# Altium footprint library EXP_HW_V3.PcbLib: 103 footprints (part 5 of 7)
Each footprint in its own frame and in the unit in brackets; x right, y up, seen from the top. Pads: shape width x height; smd on the part's side, far side on the other; paste and mask are expansions set on the pad; w line width, h text height; cw(c..) or ccw(c..) is an arc to the next point about the centre after c.
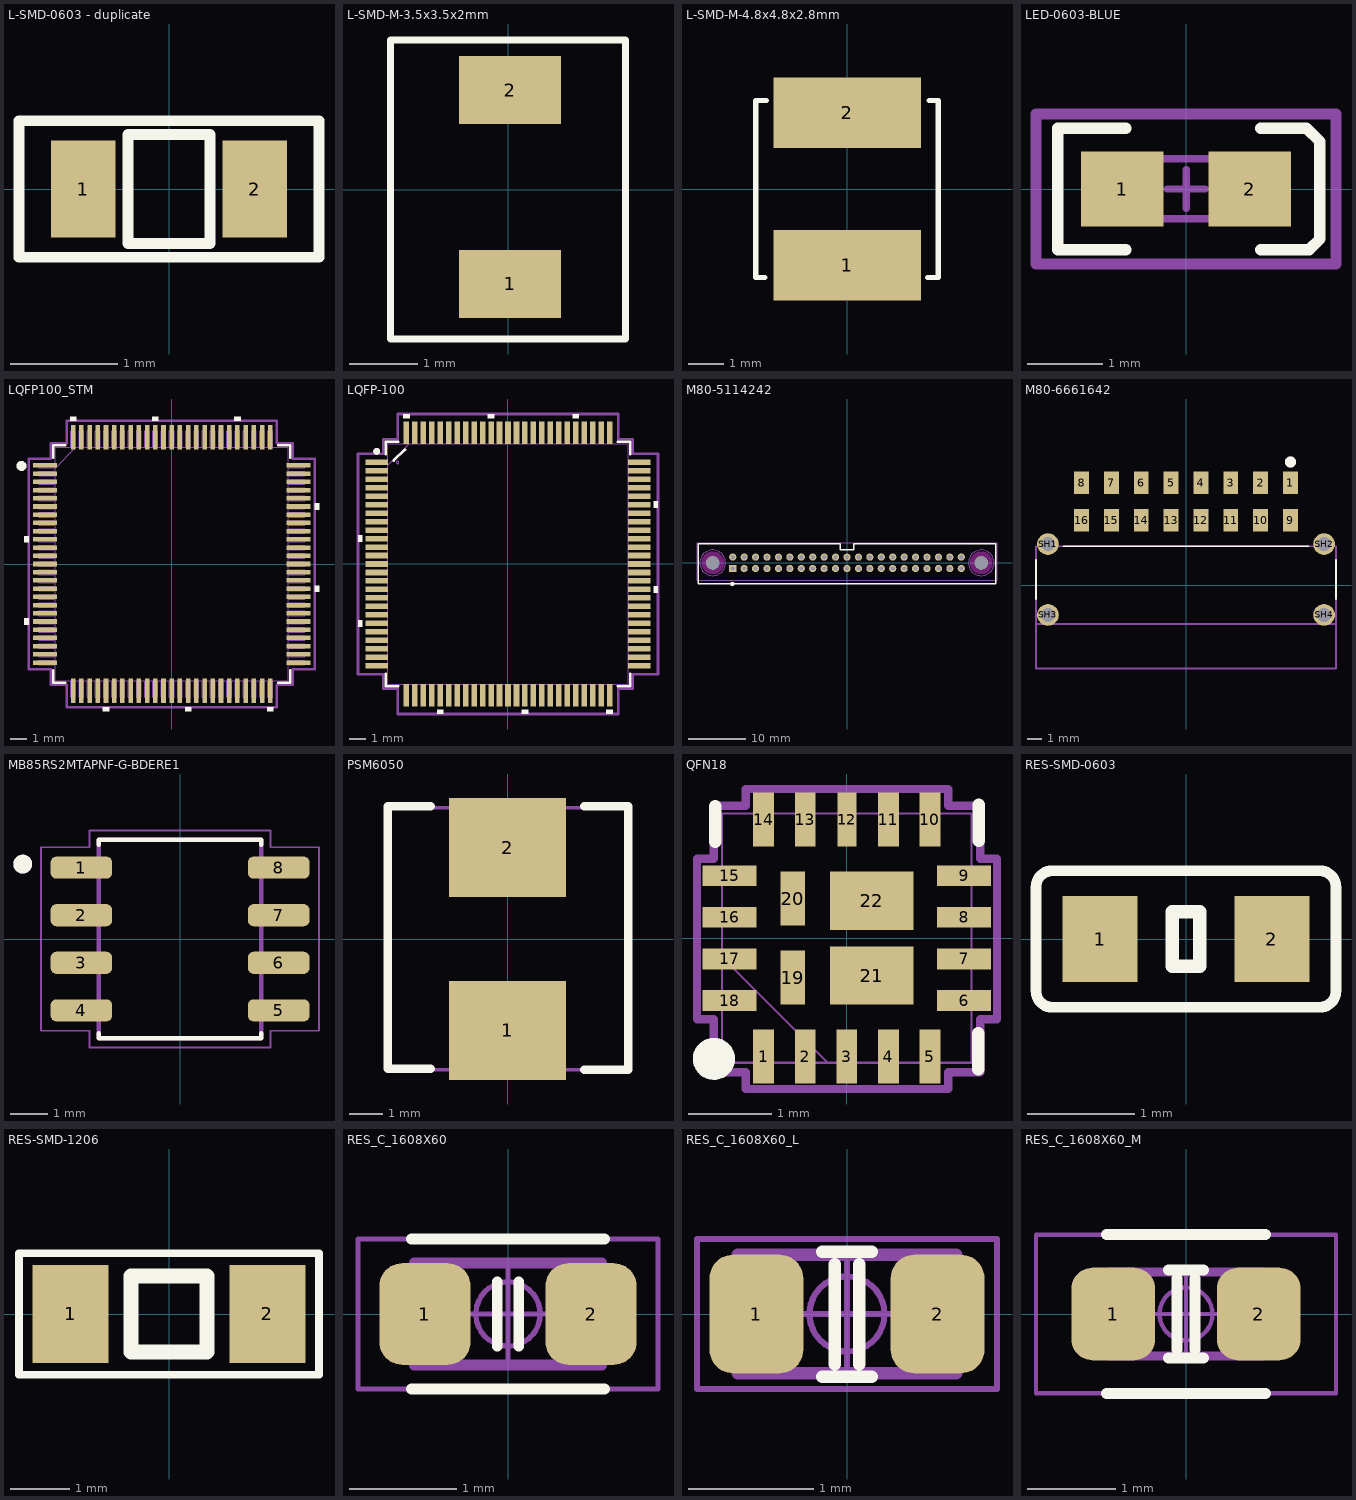
[diagram p4: the footprints below, top view; thin cyan lines are the x and y axes]

## L-SMD-0603 - duplicate [mm]
pads (2):
  rect 0.6x0.9 smd: 1(-0.8,0) 2(0.8,0)
Top Overlay:
  lines w0.1: -1.397,-0.635 0.889,-0.635 1.397,-0.635 1.397,0.635 -1.397,0.635 -1.397,-0.635 ; -0.381,-0.508 -0.381,0.508 0.381,0.508 0.381,-0.508 -0.381,-0.508
3D body "L_0603.stp": height 0.81, standoff 0.01, extent -0.8,-0.4 0.8,0.4

## L-SMD-M-3.5x3.5x2mm [mm]
pads (2):
  rect 1.5x1 smd: 1(0.032,-1.385) 2(0.032,1.461)
Top Overlay:
  lines w0.1: -1.727,-2.195 -1.727,2.195 1.727,2.195 1.727,-2.195 -1.727,-2.195
3D body "SRP3020TA.stp": height 1.84, standoff 0.03, extent -1.58,-1.731 1.62,1.765

## L-SMD-M-4.8x4.8x2.8mm [mm]
pads (2):
  rect 4.2x2 smd: 1(0,-2.17) 2(0,2.17)
Top Overlay:
  lines w0.15: -2.357,-2.517 -2.609,-2.517 -2.609,2.519 -2.304,2.519 ; 2.28,-2.518 2.585,-2.518 2.585,2.518 2.333,2.518
3D body "SRR4828A.stp": height 2.76, standoff 0, extent -2.41,-2.4 2.41,2.4

## LED-0603-BLUE [mm] "LED SMD; Body 1.6 x 0.8 mm (LxW typ)"
height 0.75
pads (2):
  rect 1.1x1 smd mask+0.1: 1(-0.851,0) 2(0.849,0)
Top Overlay:
  lines w0.15: -0.801,-0.81 -1.712,-0.81 -1.712,0.81 -0.801,0.81 ; 0.995,-0.81 1.642,-0.81 1.784,-0.668 1.784,0.632 1.606,0.81 0.995,0.81
Top 3D Body:
  lines w0.1: -0.254,0 0.254,0 ; 0,-0.254 0,0.254 ; -0.8,-0.4 0.8,-0.4 0.8,0.4 -0.8,0.4 -0.8,-0.4
Top Courtyard:
  lines w0.15: -2.001,-1 1.999,-1 1.999,1 -2.001,1 -2.001,-1
3D body: height 0.75, standoff 0.18, extent -0.6,-0.4 0.6,0.4
3D body: height 0.18, standoff 0, extent -0.8,-0.4 0.8,0.4

## LQFP100_STM [mil]
pads (100):
  rect 58x11 smd paste+0 mask+4.72: 1(-304,236.22) 2(-304,216.54) 3(-304,196.85) 4(-304,177.17) 5(-304,157.48) 6(-304,137.8) 7(-304,118.11) 8(-304,98.43) 9(-304,78.74) 10(-304,59.06) 11(-304,39.37) 12(-304,19.69) 13(-304,0) 14(-304,-19.68) 15(-304,-39.37) 16(-304,-59.06) 17(-304,-78.74) 18(-304,-98.43) 19(-304,-118.11) 20(-304,-137.8) 21(-304,-157.48) 22(-304,-177.17) 23(-304,-196.85) 24(-304,-216.54) 25(-304,-236.22) 51(304,-236.22) 52(304,-216.54) 53(304,-196.85) 54(304,-177.17) 55(304,-157.48) 56(304,-137.8) 57(304,-118.11) 58(304,-98.43) 59(304,-78.74) 60(304,-59.06) 61(304,-39.37) 62(304,-19.68) 63(304,0) 64(304,19.68) 65(304,39.37) 66(304,59.06) 67(304,78.74) 68(304,98.43) 69(304,118.11) 70(304,137.8) 71(304,157.48) 72(304,177.17) 73(304,196.85) 74(304,216.54) 75(304,236.22)
  rect 11x58 smd paste+0 mask+4.72: 26(-236.22,-304) 27(-216.54,-304) 28(-196.85,-304) 29(-177.17,-304) 30(-157.48,-304) 31(-137.8,-304) 32(-118.11,-304) 33(-98.43,-304) 34(-78.74,-304) 35(-59.06,-304) 36(-39.37,-304) 37(-19.68,-304) 38(0,-304) 39(19.68,-304) 40(39.37,-304) 41(59.06,-304) 42(78.74,-304) 43(98.43,-304) 44(118.11,-304) 45(137.8,-304) 46(157.48,-304) 47(177.17,-304) 48(196.85,-304) 49(216.54,-304) 50(236.22,-304) 76(236.22,304) 77(216.54,304) 78(196.85,304) 79(177.17,304) 80(157.48,304) 81(137.8,304) 82(118.11,304) 83(98.43,304) 84(78.74,304) 85(59.06,304) 86(39.37,304) 87(19.68,304) 88(0,304) 89(-19.68,304) 90(-39.37,304) 91(-59.06,304) 92(-78.74,304) 93(-98.43,304) 94(-118.11,304) 95(-137.8,304) 96(-157.48,304) 97(-177.17,304) 98(-196.85,304) 99(-216.54,304) 100(-236.22,304)
Top Overlay:
  circle w12: c-360,235 r6
  region: -343,66.56 -353,66.56 -353,51.56 -343,51.56
  region: -343,-130.3 -353,-130.3 -353,-145.3 -343,-145.3
  region: -149.98,-343 -164.98,-343 -164.98,-353 -149.98,-353
  region: 46.87,-343 31.87,-343 31.87,-353 46.87,-353
  region: 243.72,-343 228.72,-343 228.72,-353 243.72,-353
  region: 343,-51.56 353,-51.56 353,-66.56 343,-66.56
  region: 343,145.3 353,145.3 353,130.3 343,130.3
  region: 164.98,343 149.98,343 149.98,353 164.98,353
  region: -31.87,343 -46.87,343 -46.87,353 -31.87,353
  region: -228.72,343 -243.72,343 -243.72,353 -228.72,353
  lines w6: -284.5,-254.82 -284.5,-284.5 -254.82,-284.5 ; -284.5,254.82 -284.5,284.5 -254.82,284.5 ; 254.82,-284.5 284.5,-284.5 284.5,-254.82 ; 254.82,284.5 284.5,284.5 284.5,254.82
Mechanical 13:
  drawing of 405 lines, arcs and shapes, not listed
  text "*" at -277,221.06 h50
Mechanical 15:
  lines w6: -343,-251.72 -289.5,-251.72 -289.5,-289.5 -251.72,-289.5 -251.72,-343 251.72,-343 251.72,-289.5 289.5,-289.5 289.5,-251.72 343,-251.72 343,251.72 289.5,251.72 289.5,289.5 251.72,289.5 251.72,343 -251.72,343 -251.72,289.5 -289.5,289.5 -289.5,251.72 -343,251.72 -343,-251.72
3D body "LQFP100_STM.step": height 63.11, standoff 0, extent -319.02,-319.02 319.02,319.02

## LQFP-100 [mm]
pads (100):
  rect 1.35x0.33 smd paste+0: 1(-7.75,6) 2(-7.75,5.5) 3(-7.75,5) 4(-7.75,4.5) 5(-7.75,4) 6(-7.75,3.5) 7(-7.75,3) 8(-7.75,2.5) 9(-7.75,2) 10(-7.75,1.5) 11(-7.75,1) 12(-7.75,0.5) 13(-7.75,0) 14(-7.75,-0.5) 15(-7.75,-1) 16(-7.75,-1.5) 17(-7.75,-2) 18(-7.75,-2.5) 19(-7.75,-3) 20(-7.75,-3.5) 21(-7.75,-4) 22(-7.75,-4.5) 23(-7.75,-5) 24(-7.75,-5.5) 25(-7.75,-6) 51(7.75,-6) 52(7.75,-5.5) 53(7.75,-5) 54(7.75,-4.5) 55(7.75,-4) 56(7.75,-3.5) 57(7.75,-3) 58(7.75,-2.5) 59(7.75,-2) 60(7.75,-1.5) 61(7.75,-1) 62(7.75,-0.5) 63(7.75,0) 64(7.75,0.5) 65(7.75,1) 66(7.75,1.5) 67(7.75,2) 68(7.75,2.5) 69(7.75,3) 70(7.75,3.5) 71(7.75,4) 72(7.75,4.5) 73(7.75,5) 74(7.75,5.5) 75(7.75,6)
  rect 0.33x1.35 smd paste+0: 26(-6,-7.75) 27(-5.5,-7.75) 28(-5,-7.75) 29(-4.5,-7.75) 30(-4,-7.75) 31(-3.5,-7.75) 32(-3,-7.75) 33(-2.5,-7.75) 34(-2,-7.75) 35(-1.5,-7.75) 36(-1,-7.75) 37(-0.5,-7.75) 38(0,-7.75) 39(0.5,-7.75) 40(1,-7.75) 41(1.5,-7.75) 42(2,-7.75) 43(2.5,-7.75) 44(3,-7.75) 45(3.5,-7.75) 46(4,-7.75) 47(4.5,-7.75) 48(5,-7.75) 49(5.5,-7.75) 50(6,-7.75) 76(6,7.75) 77(5.5,7.75) 78(5,7.75) 79(4.5,7.75) 80(4,7.75) 81(3.5,7.75) 82(3,7.75) 83(2.5,7.75) 84(2,7.75) 85(1.5,7.75) 86(1,7.75) 87(0.5,7.75) 88(0,7.75) 89(-0.5,7.75) 90(-1,7.75) 91(-1.5,7.75) 92(-2,7.75) 93(-2.5,7.75) 94(-3,7.75) 95(-3.5,7.75) 96(-4,7.75) 97(-4.5,7.75) 98(-5,7.75) 99(-5.5,7.75) 100(-6,7.75)
Top Overlay:
  circle w0.252: c-7.753,6.65 r0.076
  region: -5.809,8.601 -6.19,8.601 -6.19,8.855 -5.809,8.855
  region: -0.809,8.601 -1.19,8.601 -1.19,8.855 -0.809,8.855
  region: 4.191,8.601 3.81,8.601 3.81,8.855 4.191,8.855
  region: 8.601,3.69 8.855,3.69 8.855,3.309 8.601,3.309
  region: 8.601,-1.31 8.855,-1.31 8.855,-1.691 8.601,-1.691
  region: 6.191,-8.601 5.81,-8.601 5.81,-8.855 6.191,-8.855
  region: 1.191,-8.601 0.81,-8.601 0.81,-8.855 1.191,-8.855
  region: -3.809,-8.601 -4.19,-8.601 -4.19,-8.855 -3.809,-8.855
  region: -8.601,-3.31 -8.855,-3.31 -8.855,-3.691 -8.601,-3.691
  region: -8.601,1.69 -8.855,1.69 -8.855,1.309 -8.601,1.309
  lines w0.15: -6.756,6.096 -6.071,6.756
  lines w0.152: -7.226,-6.485 -7.226,-7.226 -6.485,-7.226 ; -7.226,6.485 -7.226,7.226 -6.485,7.226 ; 6.485,-7.226 7.226,-7.226 7.226,-6.485 ; 6.485,7.226 7.226,7.226 7.226,6.485
Mechanical 13:
  circle w0: c-6.518,6 r0.076
  lines w0.025: -7.099,5.829 -5.829,7.099 ; -7.099,-7.099 -7.099,7.099 7.099,7.099 7.099,-7.099 -7.099,-7.099
Mechanical 15:
  lines w0.152: -8.855,-6.508 -8.855,6.508 -7.353,6.508 -7.353,7.353 -6.508,7.353 -6.508,8.855 6.508,8.855 6.508,7.353 7.353,7.353 7.353,6.508 8.855,6.508 8.855,-6.508 7.353,-6.508 7.353,-7.353 6.508,-7.353 6.508,-8.855 -6.508,-8.855 -6.508,-7.353 -7.353,-7.353 -7.353,-6.508 -8.855,-6.508
3D body "LQFP100-14x14mm.step": height 1.6, standoff 0, extent -7.997,-7.997 7.997,7.997

## M80-5114242 [mm] "CONN HEADER VERT 42POS 2MM"
pads (44):
  rect 1.258x1.258 / inner round 1.258 / far side rect 1.258x1.258 hole 0.75: 1(-20,-1)
  round 1.258 hole 0.75: 2(-18,-1) 3(-16,-1) 4(-14,-1) 5(-12,-1) 6(-10,-1) 7(-8,-1) 8(-6,-1) 9(-4,-1) 10(-2,-1) 11(0,-1) 12(2,-1) 13(4,-1) 14(6,-1) 15(8,-1) 16(10,-1) 17(12,-1) 18(14,-1) 19(16,-1) 20(18,-1) 21(20,-1) 22(-20,1) 23(-18,1) 24(-16,1) 25(-14,1) 26(-12,1) 27(-10,1) 28(-8,1) 29(-6,1) 30(-4,1) 31(-2,1) 32(0,1) 33(2,1) 34(4,1) 35(6,1) 36(8,1) 37(10,1) 38(12,1) 39(14,1) 40(16,1) 41(18,1) 42(20,1)
  round 2.3 hole 2.3 unplated: ""(-23.5,0) ""(23.5,0)
Top Overlay:
  circle w0.381: c-20.066,-3.683 r0.178
  lines w0.254: -26.035,-3.683 -26.035,3.302 -1.143,3.302 -1.143,2.286 1.143,2.286 1.143,3.302 26.035,3.302 26.035,-3.683 -26.035,-3.683
Keep-Out Layer:
  circle w2: c23.5,0 r1
  circle w2: c-23.5,0 r1
  circle w2: c-23.5,0 r1
  circle w2: c23.5,0 r1
  circle w2: c23.5,0 r1
  circle w2: c-23.5,0 r1
  circle w2: c-23.5,0 r1
  circle w2: c23.5,0 r1
Top Assembly:
  circle w0.254: c-20.066,-3.683 r0.254
  text "'.Designator'" at -9.318,-1.454 h2
Top 3D Body:
  circle w0.05: c-23.5,0 r2.25
  circle w0.05: c23.5,0 r2.25
Mechanical 15:
  lines w0.05: -26.25,-3.025 -26.25,3.525 26.25,3.525 26.25,-3.025 -26.25,-3.025
3D body "m80-5114242.stp": height 5.66, standoff -5.94, extent -26,-3.275 26,2.775

## M80-6661642 [mm] "CONN HEADER SMD R/A 16POS 2MM"
pads (20):
  rect 1x1.5 smd: 1(7,6.85) 2(5,6.85) 3(3,6.85) 4(1,6.85) 5(-1,6.85) 6(-3,6.85) 7(-5,6.85) 8(-7,6.85) 9(7,4.35) 10(5,4.35) 11(3,4.35) 12(1,4.35) 13(-1,4.35) 14(-3,4.35) 15(-5,4.35) 16(-7,4.35)
  round 1.458 hole 0.95: SH1(-9.25,2.75) SH2(9.25,2.75) SH3(-9.25,-2) SH4(9.25,-2)
Top Overlay:
  circle w0.381: c7,8.25 r0.178
  lines w0.127: -10.05,-0.95 -10.05,1.7 ; -8.2,2.6 8.2,2.6 ; 10.05,-0.95 10.05,1.7
Top Assembly:
  circle w0.381: c7,8.25 r0.178
  lines w0.127: -10.05,-2.6 -10.05,2.6 10.05,2.6 10.05,-2.6 ; -10.05,-2.6 -10.05,-5.6 10.05,-5.6 10.05,-2.6 ; -10.05,-2.6 10.05,-2.6
  text "'.Designator'" at -9.318,-1.454 h2
3D body "m80-6661642.stp": height 5.98, standoff -2.92, extent -9.95,-5.831 9.95,7.119

## MB85RS2MTAPNF-G-BDERE1 [mm]
pads (8):
  rrect50% 1.64x0.59 smd: 1(-2.635,1.905) 2(-2.635,0.635) 3(-2.635,-0.635) 4(-2.635,-1.905) 5(2.635,-1.905) 6(2.635,-0.635) 7(2.635,0.635) 8(2.635,1.905)
Top Overlay:
  circle w0.3: c-4.2,2 r0.1
  lines w0.127: -2.17,-2.515 -2.17,-2.65 2.17,-2.65 2.17,-2.515 ; -2.17,2.515 -2.17,2.65 2.17,2.65 2.17,2.515
Top Assembly:
  text "'.Designator'" at -9.318,-1.454 h1.6
Mechanical 13:
  circle w0.3: c-4.2,2 r0.1
Bottom 3D Body:
  lines w0.127: -2.17,-2.65 2.17,-2.65 2.17,2.65 -2.17,2.65 -2.17,-2.65
Mechanical 15:
  lines w0.05: -3.71,-2.45 -3.71,2.45 -2.42,2.45 -2.42,2.9 2.42,2.9 2.42,2.45 3.71,2.45 3.71,-2.45 2.42,-2.45 2.42,-2.9 -2.42,-2.9 -2.42,-2.45 -3.71,-2.45
3D body "MB85RS2MTAPNF-G-BDERE1.STEP": height 1.73, standoff 0, extent -3.01,-2.565 3.01,2.565

## PSM6050 [mm]
pads (2):
  rect 3.5x2.95 smd: 1(0,-2.725) 2(0,2.725)
Top Overlay:
  lines w0.254: -2.286,-3.875 -3.577,-3.875 -3.577,3.955 -2.286,3.955 ; 2.286,-3.898 3.603,-3.898 3.603,3.955 2.286,3.955
Mechanical 1:
  text "'.Designator'" at -4.233,-0.672 h1.6
Top Assembly:
  lines w0.1: -3.553,-3.903 3.561,-3.903 3.561,3.914 -3.553,3.914 -3.553,-3.903
3D body "SRP7050TA.stp": height -0.39, standoff -5.34, extent -3.3,-3.65 3.3,3.65

## QFN18 [mm]
pads (22):
  rect 0.25x0.65 smd paste+0: 1(-1,-1.425) 2(-0.5,-1.425) 3(0,-1.425) 4(0.5,-1.425) 5(1,-1.425) 10(1,1.425) 11(0.5,1.425) 13(-0.5,1.425) 14(-1,1.425)
  rect 0.65x0.25 smd paste+0: 6(1.41,-0.75) 7(1.41,-0.25) 8(1.41,0.25) 9(1.41,0.75) 15(-1.41,0.75) 16(-1.41,0.25) 17(-1.41,-0.25) 18(-1.41,-0.75)
  rect 0.229x0.65 smd paste+0: 12(0,1.425)
  rect 0.3x0.65 smd paste+0: 19(-0.65,-0.475) 20(-0.65,0.475)
  rect 1x0.7 smd paste+0: 21(0.3,-0.45) 22(0.3,0.45)
Top Overlay:
  circle w0.254: c-1.598,-1.451 r0.126
  lines w0.152: -1.582,1.158 -1.582,1.587 ; 1.581,-1.574 1.581,-1.145 ; 1.585,1.172 1.585,1.601
Mechanical 13:
  lines w0.025: -1.499,-0.229 -0.229,-1.499 ; -1.499,-1.499 -1.499,1.499 1.499,1.499 1.499,-1.499 -1.499,-1.499 ; -1.499,-0.89 -1.499,-0.61 -1.499,-0.89 ; -1.499,-0.39 -1.499,-0.11 -1.499,-0.39 ; -1.499,0.11 -1.499,0.39 -1.499,0.11 ; -1.499,0.61 -1.499,0.89 -1.499,0.61 ; -1.14,-1.499 -0.86,-1.499 -1.14,-1.499 ; -1.14,1.499 -0.86,1.499 -1.14,1.499 ; -0.64,-1.499 -0.36,-1.499 -0.64,-1.499 ; -0.64,1.499 -0.36,1.499 -0.64,1.499 ; -0.14,-1.499 0.14,-1.499 -0.14,-1.499 ; -0.14,1.499 0.14,1.499 -0.14,1.499 ; 0.36,-1.499 0.64,-1.499 0.36,-1.499 ; 0.36,1.499 0.64,1.499 0.36,1.499 ; 0.86,-1.499 1.14,-1.499 0.86,-1.499 ; 0.86,1.499 1.14,1.499 0.86,1.499 ; 1.499,-0.89 1.499,-0.61 1.499,-0.89 ; 1.499,-0.39 1.499,-0.11 1.499,-0.39 ; 1.499,0.11 1.499,0.39 1.499,0.11 ; 1.499,0.61 1.499,0.89 1.499,0.61
Mechanical 15:
  lines w0.1: -1.801,-0.976 -1.801,0.955 -1.598,0.955 -1.598,1.59 -1.214,1.59 -1.214,1.793 1.218,1.793 1.218,1.59 1.602,1.59 1.602,0.955 1.806,0.955 1.806,-0.976 1.602,-0.976 1.602,-1.611 1.218,-1.611 1.218,-1.814 -1.214,-1.814 -1.214,-1.611 -1.598,-1.611 -1.598,-0.976 -1.801,-0.976
3D body "LQFN18_3X3X095_ADI.step": height 1.04, standoff 0, extent -1.499,-1.499 1.499,1.499
3D body: height 0.25, standoff 0, extent 0,0 0.254,0.254

## RES-SMD-0603 [mm]
pads (2):
  rect 0.7x0.8 smd: 1(-0.8,0) 2(0.8,0)
Top Overlay:
  lines w0.1: -1.397,-0.485 ccw(c-1.247,-0.485) -1.247,-0.635 1.247,-0.635 ccw(c1.247,-0.485) 1.397,-0.485 1.397,0.485 ccw(c1.247,0.485) 1.247,0.635 -1.247,0.635 ccw(c-1.247,0.485) -1.397,0.485 -1.397,-0.485
  lines w0.127: -0.127,-0.254 0.127,-0.254 0.127,0.254 -0.127,0.254 -0.127,-0.254
3D body "User Library-SMD RESISTOR-1 (3).step": height 0.43, standoff -0.03, extent -0.8,-0.4 0.8,0.4

## RES-SMD-1206 [mil]
pads (2):
  rect 50x65 smd: 1(-65,0) 2(65,0)
Top Overlay:
  lines w5: -99,-40 -99,40 99,40 99,-40 -99,-40
  lines w10: -25,-25 25,-25 25,25 -25,25 -25,-25
3D body "1206 SMD Resistor.step": height 40.05, standoff 0.6, extent -62.99,-31.49 63,31.51

## RES_C_1608X60 [mm] "Chip Resistor, 2-Leads, Body 1.63x0.83mm, IPC High Density"
height 0.6
pads (2):
  rrect50% 0.85x0.95 smd: 1(-0.775,0) 2(0.775,0)
Top Overlay:
  lines w0.1: -0.9,-0.7 0.9,-0.7 ; -0.9,0.7 0.9,0.7 ; -0.1,-0.3 -0.1,0.3 ; 0.1,-0.3 0.1,0.3
Top Assembly:
  lines w0.1: -0.875,-0.475 -0.875,0.475 0.875,0.475 0.875,-0.475 -0.875,-0.475
  text "'.Designator'" at -4.217,-0.663 h1.6
Top Courtyard:
  lines w0.05: -1.4,-0.7 -1.4,0.7 1.4,0.7 1.4,-0.7 -1.4,-0.7
Top Component Outline:
  rectangle: -0.875,-0.475 -0.475,0.475
  rectangle: 0.475,-0.475 0.875,0.475
  lines w0.05: -0.875,-0.475 0.875,-0.475 0.875,0.475 -0.875,0.475 -0.875,-0.475
Top Component Center:
  circle w0.05: c0,0 r0.3
  lines w0.05: -0.5,0 0.5,0 ; 0,-0.5 0,0.5
3D body "RESC1608X60.step": height 0.6, standoff 0, extent -0.875,-0.475 0.875,0.475

## RES_C_1608X60_L [mm] "Chip Resistor, 2-Leads, Body 1.63x0.83mm, IPC High Density"
height 0.6
pads (2):
  rrect50% 0.75x0.95 smd: 1(-0.725,0) 2(0.725,0)
Top Overlay:
  lines w0.1: -0.2,-0.5 0.2,-0.5 ; -0.2,0.5 0.2,0.5 ; -0.1,-0.4 -0.1,0.4 ; 0.1,-0.4 0.1,0.4
Top Assembly:
  lines w0.1: -0.875,-0.475 -0.875,0.475 0.875,0.475 0.875,-0.475 -0.875,-0.475
  text "'.Designator'" at -4.217,-0.663 h1.6
Top Courtyard:
  lines w0.05: -1.2,-0.6 1.2,-0.6 1.2,0.6 -1.2,0.6 -1.2,-0.6
Top Component Outline:
  rectangle: -0.875,-0.475 -0.475,0.475
  rectangle: 0.475,-0.475 0.875,0.475
  lines w0.05: -0.875,-0.475 0.875,-0.475 0.875,0.475 -0.875,0.475 -0.875,-0.475
Top Component Center:
  circle w0.05: c0,0 r0.3
  lines w0.05: -0.5,0 0.5,0 ; 0,-0.5 0,0.5
3D body "RESC1608X60_L.step": height 0.6, standoff 0, extent -0.875,-0.475 0.875,0.475

## RES_C_1608X60_M [mm] "Chip Resistor, 2-Leads, Body 1.63x0.83mm, IPC High Density"
height 0.6
pads (2):
  rrect50% 0.95x1.05 smd: 1(-0.825,0) 2(0.825,0)
Top Overlay:
  lines w0.125: -0.9,-0.9 0.9,-0.9 ; -0.9,0.9 0.9,0.9 ; -0.2,-0.5 0.2,-0.5 ; -0.2,0.5 0.2,0.5 ; -0.1,-0.4 -0.1,0.4 ; 0.1,-0.4 0.1,0.4
Top Assembly:
  lines w0.1: -0.875,-0.475 -0.875,0.475 0.875,0.475 0.875,-0.475 -0.875,-0.475
  text "'.Designator'" at -4.217,-0.663 h1.6
Top Courtyard:
  lines w0.05: -1.7,-0.9 -1.7,0.9 1.7,0.9 1.7,-0.9 -1.7,-0.9
Top Component Outline:
  rectangle: 0.475,-0.475 0.875,0.475
  rectangle: -0.875,-0.475 -0.475,0.475
  lines w0.05: -0.875,-0.475 -0.875,0.475 0.875,0.475 0.875,-0.475 -0.875,-0.475
Top Component Center:
  circle w0.05: c0,0 r0.3
  lines w0.05: -0.5,0 0.5,0 ; 0,-0.5 0,0.5
3D body "RESC1608X60_M.step": height 0.6, standoff 0, extent -0.875,-0.475 0.875,0.475